# Altium schematic symbol library LTC2067HMS8#PBF.SchLib: 1 symbol
Pins are listed as number, name and electrical type; pins without a type are passive.

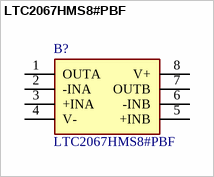
[diagram p0: symbol LTC2067HMS8#PBF]

## LTC2067HMS8#PBF
designator B?
Operational Amplifiers - Op Amps 10uA Supply,LowIBIAS ZeroDrift Dual OpAmp; Manufacturer_Name: Analog Devices; Geometry.Height: 1.1mm; Manufacturer_Part_Number: LTC2067HMS8#PBF; Mouser Part Number: 584-LTC2067HMS8#PBF; Mouser Price/Stock: https://www.mouser.co.uk/ProductDetail/Analog-Devices/LTC2067HMS8PBF?qs=w%2Fv1CP2dgqrxyuzCOwIzUQ%3D%3D; Arrow Part Number: LTC2067HMS8#PBF; Arrow Price/Stock: https://www.arrow.com/en/products/ltc2067hms8pbf/analog-devices; Datasheet Link: https://www.analog.com/media/en/technical-documentation/data-sheets/LTC2066-2067.pdf
pins: 1 OUTA, 2 -INA, 3 +INA, 4 V-, 5 +INB, 6 -INB, 7 OUTB, 8 V+